# Altium footprint library OTHERTEST.PCBLIB: 44 footprints (part 1 of 3)
Each footprint in its own frame and in the unit in brackets; x right, y up, seen from the top. Pads: shape width x height; smd on the part's side, far side on the other; paste and mask are expansions set on the pad; w line width, h text height; cw(c..) or ccw(c..) is an arc to the next point about the centre after c.
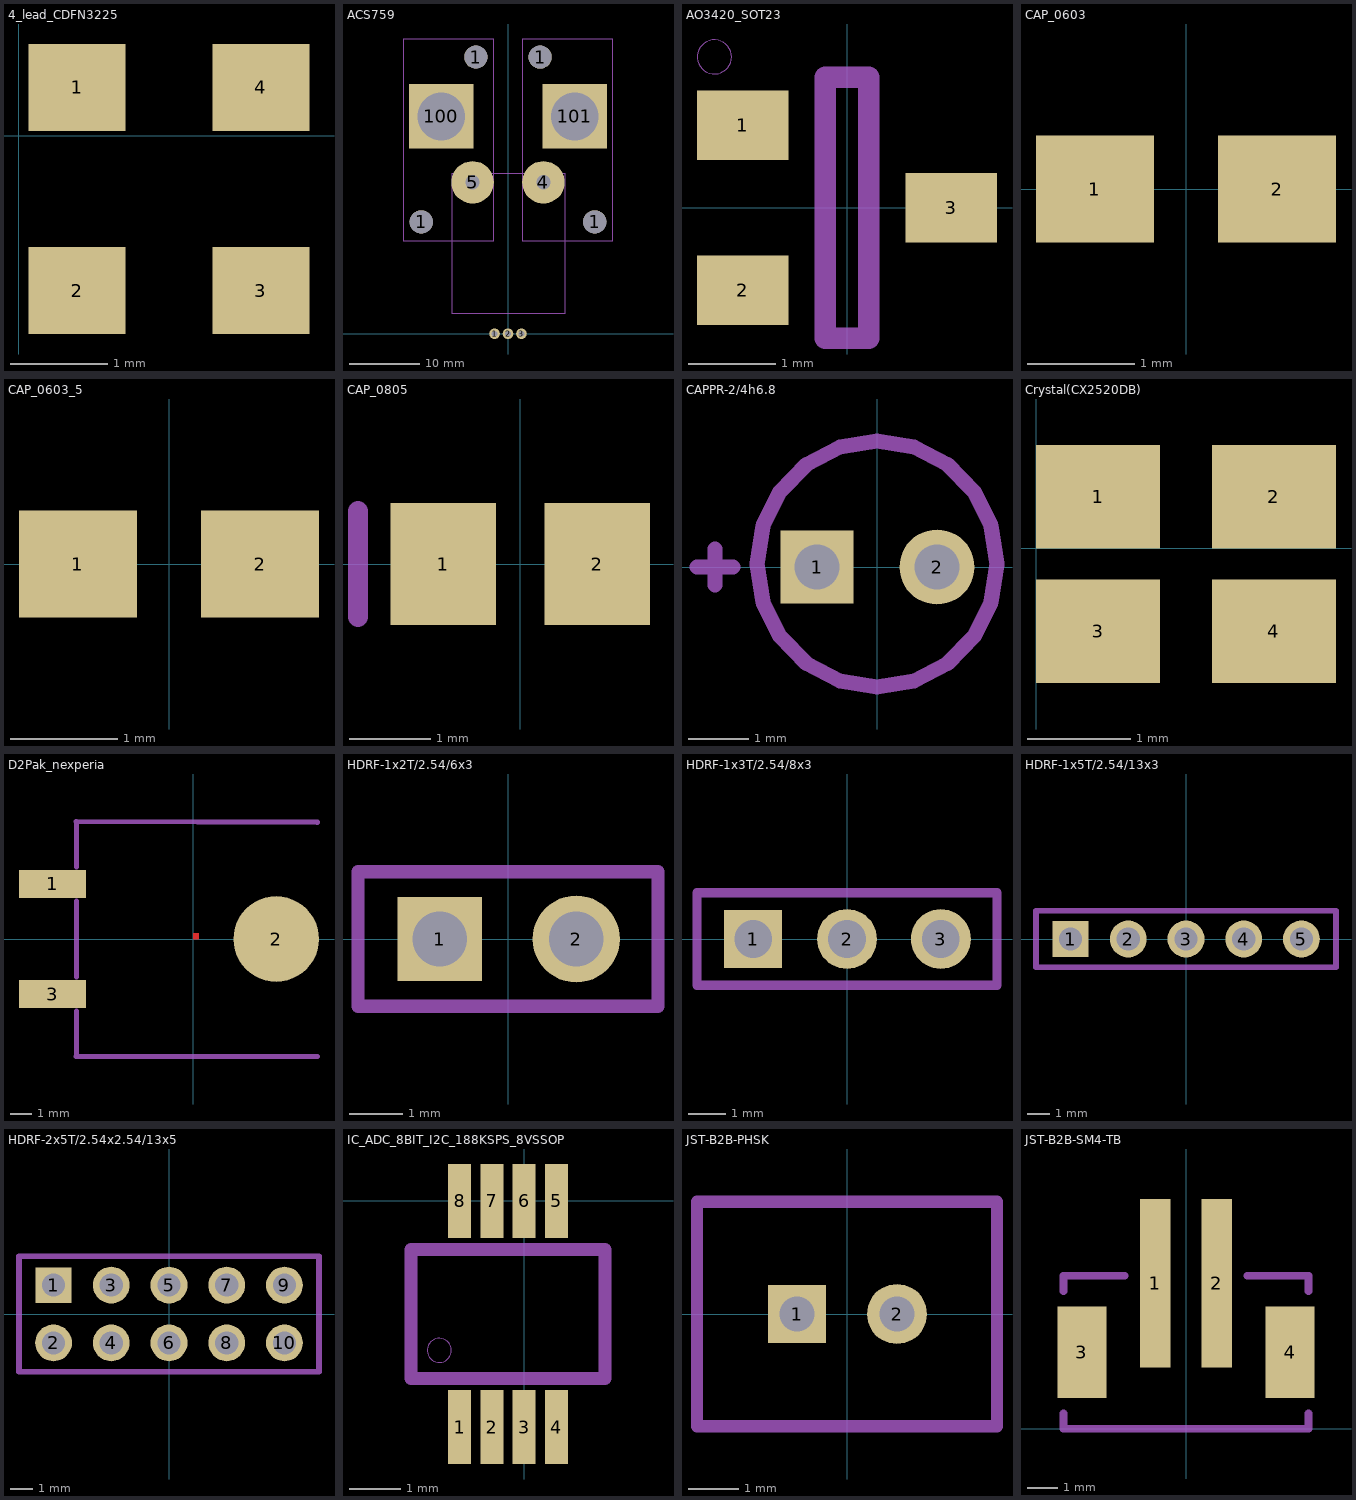
[diagram p0: the footprints below, top view; thin cyan lines are the x and y axes]

## 4_lead_CDFN3225 [mm]
pads (4):
  rect 1x0.9 smd: 1(0.6,0.5) 2(0.6,-1.6) 3(2.5,-1.6) 4(2.5,0.5)

## ACS759 [mil]
pads (11):
  round 128.5 hole 128.5 unplated: 1(-482.91,622.52) 1(-179.21,1540.43) 1(179.02,1540) 1(482.99,622.99)
  round 59.02 / inner round 60 / far side round 59.02 hole 31.5: 1(-75,0) 2(0,0)
  round 59.02 / inner round 60 / far side round 59.02 hole 32.01: 3(75,0)
  round 236.18 / inner round 60 / far side round 236.18 hole 78.7: 4(197.01,842.99) 5(-197.01,842.99)
  rect 358.25x358.25 / inner rect 60x60 / far side rect 358.25x358.25 hole 265.98: 100(-372.01,1210) 101(372.01,1210)
Top Layer:
  region: 0,0 10,0 10,10 0,10
  region: 0,0 10,0 10,10 0,10
Bottom Layer:
  region: 0,0 10,0 10,10 0,10
  region: 0,0 10,0 10,10 0,10
Top Solder:
  region: 0,0 10,0 10,10 0,10
  region: 0,0 10,0 10,10 0,10
Bottom Solder:
  region: 0,0 10,0 10,10 0,10
  region: 0,0 10,0 10,10 0,10
Mechanical 22:
  lines w0.98: -580.98,515.59 -81.46,515.59 -81.46,1640.98 -580.98,1640.98 -580.98,515.59 ; -309.09,111.5 317.24,111.5 317.24,892.6 -309.09,892.6 -309.09,111.5 ; 80.98,515.91 580.98,515.91 580.98,1640.98 80.98,1640.98 80.98,515.91

## AO3420_SOT23 [mil]
pads (3):
  rect 41.34x31.5 smd: 1(-47.24,37.4) 2(-47.24,-37.4) 3(47.24,0)
Mechanical 22:
  circle w0: c-60,68.27 r7.72
  lines w9.84: -9.84,-59.06 -9.84,59.06 9.84,59.06 9.84,-59.06 -9.84,-59.06

## CAP_0603 [mm]
pads (2):
  rect 1.1x1 smd: 1(-0.85,0) 2(0.85,0)

## CAP_0603_5 [mm]
pads (2):
  rect 1.1x1 smd: 1(-0.85,0) 2(0.85,0)

## CAP_0805 [mm]
pads (2):
  rect 1.3x1.5 smd: 1(-0.95,0) 2(0.95,0)
Mechanical 22:
  lines w0.25: -2.001,-0.65 -2.001,0.65

## CAPPR-2/4h6.8 [mm]
pads (2):
  rect 1.21x1.21 / inner rect 1.524x1.524 / far side rect 1.21x1.21 hole 0.75: 1(-1,0)
  round 1.25 / inner round 1.524 / far side round 1.25 hole 0.75: 2(1,0)
Mechanical 22:
  lines w0.25: -3,0 -2.4,0 ; -2.7,-0.3 -2.7,0.3 ; -2,0.05 -1.902,0.683 -1.618,1.255 -1.176,1.708 -0.618,2 0,2.1 0.618,2 1.176,1.708 1.618,1.255 1.902,0.683 2,0.05 1.902,-0.583 1.618,-1.155 1.176,-1.608 0.618,-1.9 0,-2 -0.618,-1.9 -1.176,-1.608 -1.618,-1.155 -1.902,-0.583 -2,0.05

## Crystal(CX2520DB) [mm]
pads (4):
  rect 1.2x1 smd: 1(0.6,0.5) 2(2.3,0.5) 3(0.6,-0.8) 4(2.3,-0.8)

## D2Pak_nexperia [mm]
pads (3):
  rect 3.1x1.3 smd: 1(-6.5,2.54) 3(-6.5,-2.54)
  rrect100% 3.95x3.95 smd paste+0 mask+0: 2(3.825,0)
Top Layer:
  region: 0,0 0.254,0 0.254,0.254 0,0.254
Top Paste:
  region: 0,0 0.254,0 0.254,0.254 0,0.254
Top Solder:
  region: 0,0 0.254,0 0.254,0.254 0,0.254
Mechanical 22:
  lines w0.25: -5.4,-5.425 5.715,-5.425 ; -5.4,5.425 5.715,5.398 ; -5.397,-5.398 -5.397,-3.334 ; -5.397,-1.746 -5.397,1.746 ; -5.397,3.334 -5.397,5.398

## HDRF-1x2T/2.54/6x3 [mm]
pads (2):
  rect 1.569x1.569 / inner rect 1.524x1.524 / far side rect 1.569x1.569 hole 1.02: 1(-1.27,0)
  round 1.62 / inner round 1.524 / far side round 1.62 hole 1.02: 2(1.27,0)
Mechanical 22:
  lines w0.25: -2.79,-1.25 2.79,-1.25 2.79,1.25 -2.79,1.25 -2.79,-1.25

## HDRF-1x3T/2.54/8x3 [mm]
pads (3):
  rect 1.569x1.569 / inner rect 1.524x1.524 / far side rect 1.569x1.569 hole 1.02: 1(-2.54,0)
  round 1.62 / inner round 1.524 / far side round 1.62 hole 1.02: 2(0,0) 3(2.54,0)
Mechanical 22:
  lines w0.25: -4.06,-1.25 4.06,-1.25 4.06,1.25 -4.06,1.25 -4.06,-1.25

## HDRF-1x5T/2.54/13x3 [mm]
pads (5):
  rect 1.569x1.569 / inner rect 1.524x1.524 / far side rect 1.569x1.569 hole 1.02: 1(-5.08,0)
  round 1.62 / inner round 1.524 / far side round 1.62 hole 1.02: 2(-2.54,0) 3(0,0) 4(2.54,0) 5(5.08,0)
Mechanical 22:
  lines w0.25: -6.6,-1.25 6.6,-1.25 6.6,1.25 -6.6,1.25 -6.6,-1.25

## HDRF-2x5T/2.54x2.54/13x5 [mm]
pads (10):
  rect 1.569x1.569 / inner rect 1.524x1.524 / far side rect 1.569x1.569 hole 1.02: 1(-5.08,1.27)
  round 1.62 / inner round 1.524 / far side round 1.62 hole 1.02: 2(-5.08,-1.27) 3(-2.54,1.27) 4(-2.54,-1.27) 5(0,1.27) 6(0,-1.27) 7(2.54,1.27) 8(2.54,-1.27) 9(5.08,1.27) 10(5.08,-1.27)
Mechanical 22:
  lines w0.25: -6.6,-2.54 6.6,-2.54 6.6,2.54 -6.6,2.54 -6.6,-2.54

## IC_ADC_8BIT_I2C_188KSPS_8VSSOP [mm]
pads (8):
  rect 0.45x1.45 smd: 1(-1.27,-4.445) 2(-0.635,-4.445) 3(0,-4.445) 4(0.635,-4.445) 5(0.635,0) 6(0,0) 7(-0.635,0) 8(-1.27,0)
Mechanical 22:
  circle w0: c-1.667,-2.937 r0.238
  lines w0.25: -2.222,-3.492 1.587,-3.492 1.587,-0.953 -2.222,-0.953 -2.222,-3.492

## JST-B2B-PHSK [mm]
pads (2):
  rect 1.162x1.162 / inner rect 1.524x1.524 / far side rect 1.162x1.162 hole 0.7: 1(-1,0)
  round 1.2 / inner round 1.524 / far side round 1.2 hole 0.7: 2(1,0)
Mechanical 22:
  lines w0.25: -3,-2.25 3,-2.25 3,2.25 -3,2.25 -3,-2.25

## JST-B2B-SM4-TB [mm]
pads (4):
  rect 1x5.5 smd: 1(-1,4.75) 2(1,4.75)
  rect 1.6x3 smd: 3(-3.4,2.5) 4(3.4,2.5)
Mechanical 22:
  lines w0.25: -4,0.5 -4,0 4,0 4,0.5 ; -4,4.5 -4,5 -2,5 ; 2,5 4,5 4,4.5